# EAGLE library part MSG1286A (library Grafikdisplay - MSG1286A)
Name des Bauteiles: -->MSG1286A Daten:LCD 128x64 Dots, LCD Driving Voltage 9.0V, Logic Voltage 5.0V, 70mm x 93mm Artikelnummer:#201364 Datenblatt:www.alldatasheet.com __________________________________________ generated by Eagle Description Tool am : 22.01.2014 08:55:30 erstellt von: fert
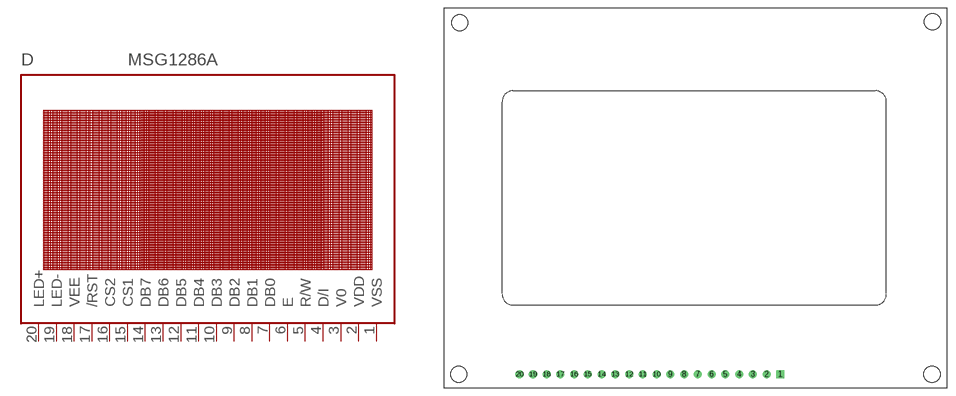
[diagram p0: symbol with the pads of MSG12864A; footprint MSG12864A]

Designator prefix D

## MSG1286ATHT  [MSG12864A]
1  VSS  pwr
2  VDD  pwr
3  V0  pas
4  D/I  in
5  R/W  in
6  E  in
7  DB0
8  DB1
9  DB2
10  DB3
11  DB4
12  DB5
13  DB6
14  DB7
15  CS1  in
16  CS2  in
17  /RST  in
18  VEE  out
19  LED-  pas
20  LED+  pas

## Footprint MSG12864A (pad centres in mm)
drill 1 square: 1 19.93,-35.19
drill 1: 2 17.39,-35.19; 3 14.85,-35.19; 4 12.31,-35.19; 5 9.77,-35.19; 6 7.23,-35.19; 7 4.69,-35.19; 8 2.15,-35.19; 9 -0.39,-35.19; 10 -2.93,-35.19; 11 -5.47,-35.19; 12 -8.01,-35.19; 13 -10.55,-35.19; 14 -13.09,-35.19; 15 -15.63,-35.19; 16 -18.17,-35.19; 17 -20.71,-35.19; 18 -23.25,-35.19; 19 -25.75,-35.19; 20 -28.25,-35.19
hole 3 at -39.47,-35.19
hole 3 at 47.93,-35.19
hole 3 at -39.27,29.81
hole 3 at 48.03,30.01